# Altium schematic symbol library SCH - MPU - TI - TI AM62x AMC.SchLib: 1 symbol
Pins are listed as number, name and electrical type; pins without a type are passive.

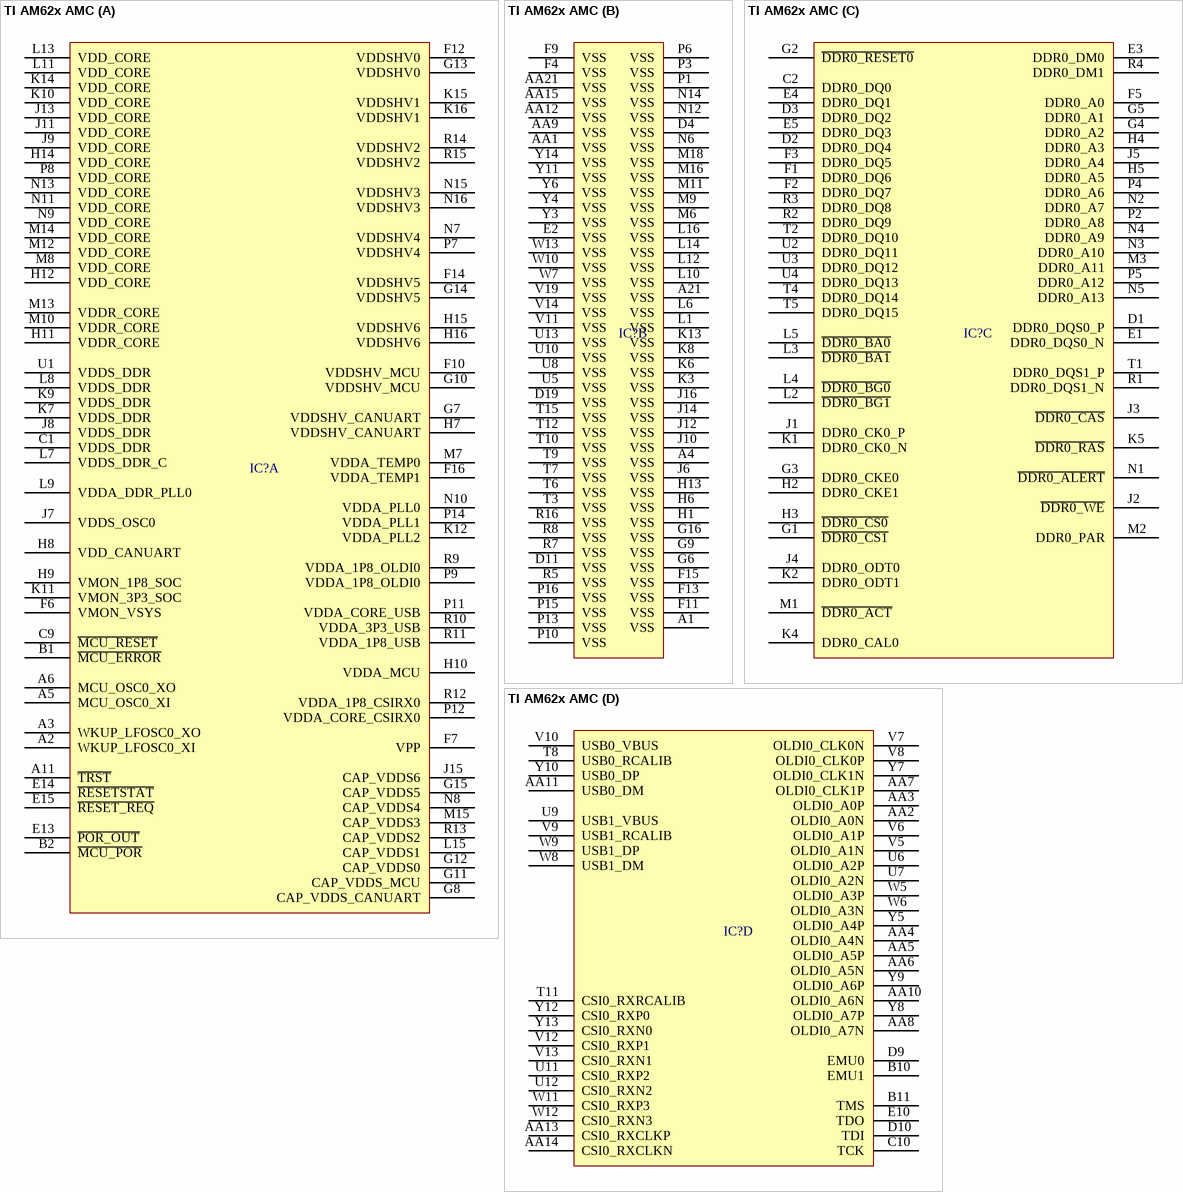
[diagram p0: symbol TI AM62x AMC]

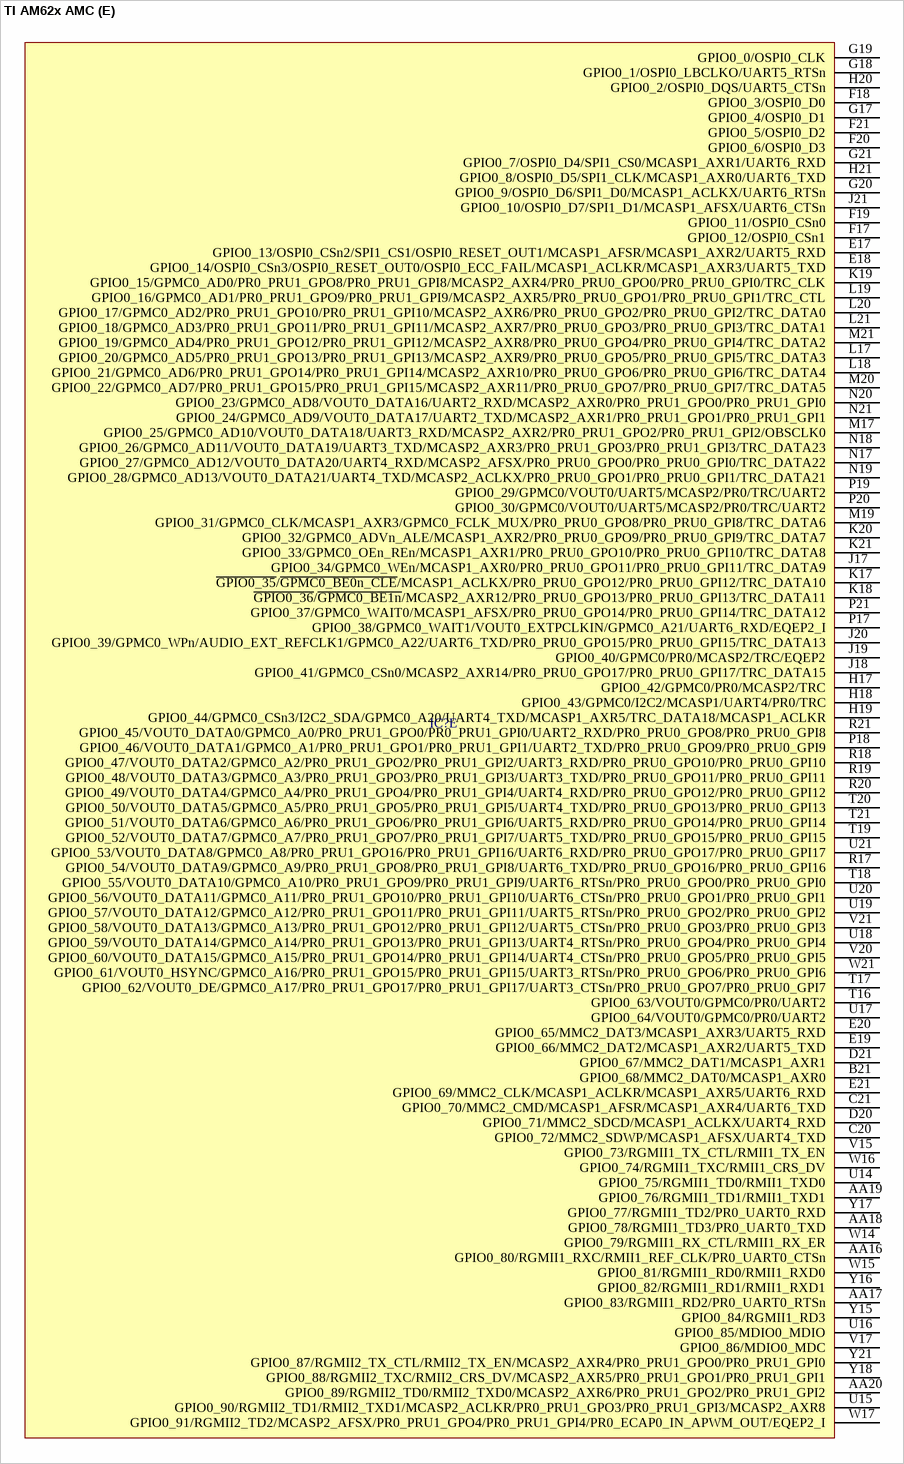
[diagram p1: symbol TI AM62x AMC]

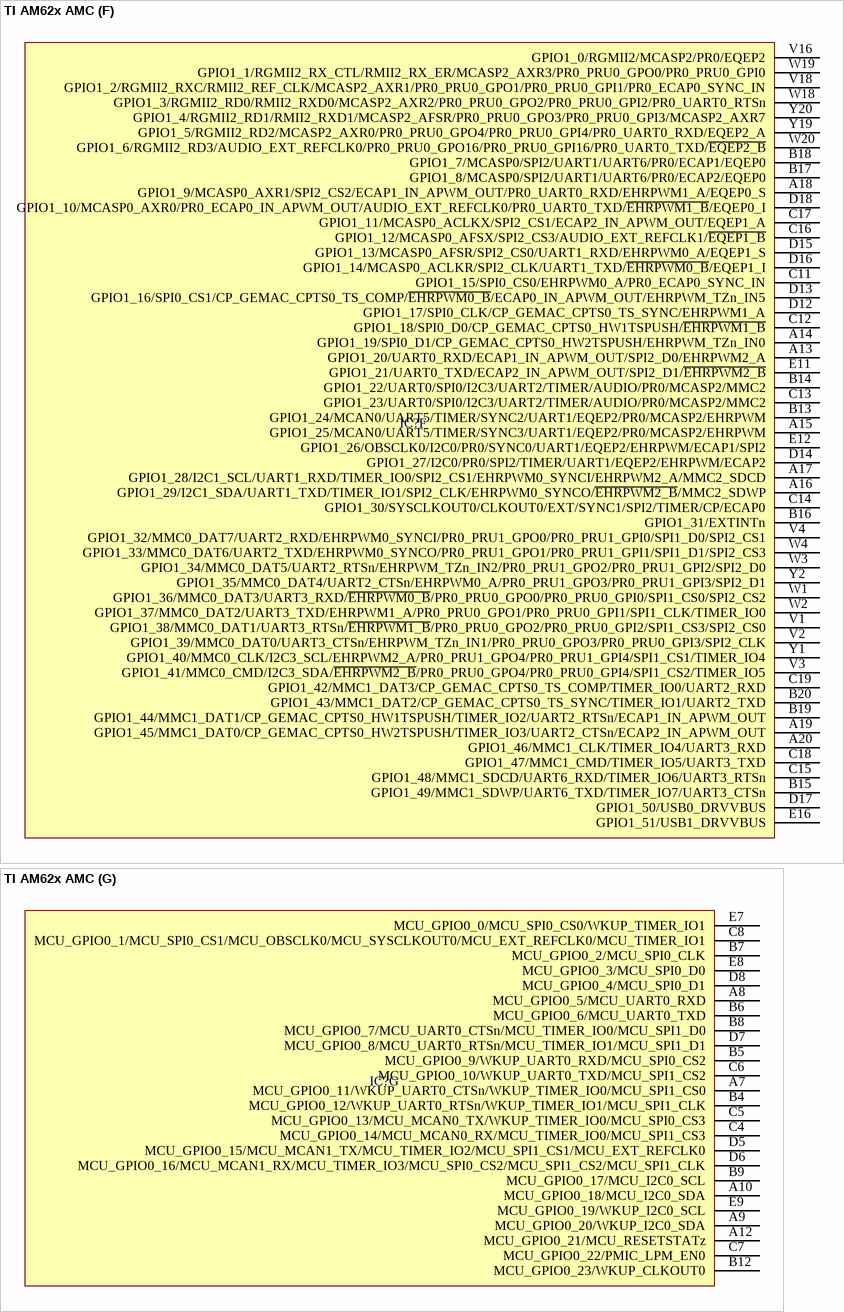
[diagram p2: symbol TI AM62x AMC]

## TI AM62x AMC
designator IC?
part A pins: A2 WKUP_LFOSC0_XI, A3 WKUP_LFOSC0_XO, A5 MCU_OSC0_XI, A6 MCU_OSC0_XO, A11 ~{TRST}, B1 ~{MCU_ERROR}, B2 ~{MCU_POR}, C1 VDDS_DDR, C9 ~{MCU_RESET}, E13 ~{POR_OUT}, E14 ~{RESETSTAT}, E15 ~{RESET_REQ}, F6 VMON_VSYS, F7 VPP, F10 VDDSHV_MCU, F12 VDDSHV0, F14 VDDSHV5, F16 VDDA_TEMP1, G7 VDDSHV_CANUART, G8 CAP_VDDS_CANUART, G10 VDDSHV_MCU, G11 CAP_VDDS_MCU, G12 CAP_VDDS0, G13 VDDSHV0, G14 VDDSHV5, G15 CAP_VDDS5, H7 VDDSHV_CANUART, H8 VDD_CANUART, H9 VMON_1P8_SOC, H10 VDDA_MCU, H11 VDDR_CORE, H12 VDD_CORE, H14 VDD_CORE, H15 VDDSHV6, H16 VDDSHV6, J7 VDDS_OSC0, J8 VDDS_DDR, J9 VDD_CORE, J11 VDD_CORE, J13 VDD_CORE, J15 CAP_VDDS6, K7 VDDS_DDR, K9 VDDS_DDR, K10 VDD_CORE, K11 VMON_3P3_SOC, K12 VDDA_PLL2, K14 VDD_CORE, K15 VDDSHV1, K16 VDDSHV1, L7 VDDS_DDR_C, L8 VDDS_DDR, L9 VDDA_DDR_PLL0, L11 VDD_CORE, L13 VDD_CORE, L15 CAP_VDDS1, M7 VDDA_TEMP0, M8 VDD_CORE, M10 VDDR_CORE, M12 VDD_CORE, M13 VDDR_CORE, M14 VDD_CORE, M15 CAP_VDDS3, N7 VDDSHV4, N8 CAP_VDDS4, N9 VDD_CORE, N10 VDDA_PLL0, N11 VDD_CORE, N13 VDD_CORE, N15 VDDSHV3, N16 VDDSHV3, P7 VDDSHV4, P8 VDD_CORE, P9 VDDA_1P8_OLDI0, P11 VDDA_CORE_USB, P12 VDDA_CORE_CSIRX0, P14 VDDA_PLL1, R9 VDDA_1P8_OLDI0, R10 VDDA_3P3_USB, R11 VDDA_1P8_USB, R12 VDDA_1P8_CSIRX0, R13 CAP_VDDS2, R14 VDDSHV2, R15 VDDSHV2, U1 VDDS_DDR
part B pins: A1 VSS, A4 VSS, A21 VSS, AA1 VSS, AA9 VSS, AA12 VSS, AA15 VSS, AA21 VSS, D4 VSS, D11 VSS, D19 VSS, E2 VSS, F4 VSS, F9 VSS, F11 VSS, F13 VSS, F15 VSS, G6 VSS, G9 VSS, G16 VSS, H1 VSS, H6 VSS, H13 VSS, J6 VSS, J10 VSS, J12 VSS, J14 VSS, J16 VSS, K3 VSS, K6 VSS, K8 VSS, K13 VSS, L1 VSS, L6 VSS, L10 VSS, L12 VSS, L14 VSS, L16 VSS, M6 VSS, M9 VSS, M11 VSS, M16 VSS, M18 VSS, N6 VSS, N12 VSS, N14 VSS, P1 VSS, P3 VSS, P6 VSS, P10 VSS, P13 VSS, P15 VSS, P16 VSS, R5 VSS, R7 VSS, R8 VSS, R16 VSS, T3 VSS, T6 VSS, T7 VSS, T9 VSS, T10 VSS, T12 VSS, T15 VSS, U5 VSS, U8 VSS, U10 VSS, U13 VSS, V11 VSS, V14 VSS, V19 VSS, W7 VSS, W10 VSS, W13 VSS, Y3 VSS, Y4 VSS, Y6 VSS, Y11 VSS, Y14 VSS
part C pins: C2 DDR0_DQ0, D1 DDR0_DQS0_P, D2 DDR0_DQ4, D3 DDR0_DQ2, E1 DDR0_DQS0_N, E3 DDR0_DM0, E4 DDR0_DQ1, E5 DDR0_DQ3, F1 DDR0_DQ6, F2 DDR0_DQ7, F3 DDR0_DQ5, F5 DDR0_A0, G1 ~{DDR0_CS1}, G2 ~{DDR0_RESET0}, G3 DDR0_CKE0, G4 DDR0_A2, G5 DDR0_A1, H2 DDR0_CKE1, H3 ~{DDR0_CS0}, H4 DDR0_A3, H5 DDR0_A5, J1 DDR0_CK0_P, J2 ~{DDR0_WE}, J3 ~{DDR0_CAS}, J4 DDR0_ODT0, J5 DDR0_A4, K1 DDR0_CK0_N, K2 DDR0_ODT1, K4 DDR0_CAL0, K5 ~{DDR0_RAS}, L2 ~{DDR0_BG1}, L3 ~{DDR0_BA1}, L4 ~{DDR0_BG0}, L5 ~{DDR0_BA0}, M1 ~{DDR0_ACT}, M2 DDR0_PAR, M3 DDR0_A11, N1 ~{DDR0_ALERT}, N2 DDR0_A7, N3 DDR0_A10, N4 DDR0_A9, N5 DDR0_A13, P2 DDR0_A8, P4 DDR0_A6, P5 DDR0_A12, R1 DDR0_DQS1_N, R2 DDR0_DQ9, R3 DDR0_DQ8, R4 DDR0_DM1, T1 DDR0_DQS1_P, T2 DDR0_DQ10, T4 DDR0_DQ14, T5 DDR0_DQ15, U2 DDR0_DQ11, U3 DDR0_DQ12, U4 DDR0_DQ13
part D pins: AA2 OLDI0_A0N, AA3 OLDI0_A0P, AA4 OLDI0_A4N, AA5 OLDI0_A5P, AA6 OLDI0_A5N, AA7 OLDI0_CLK1P, AA8 OLDI0_A7N, AA10 OLDI0_A6N, AA11 USB0_DM, AA13 CSI0_RXCLKP, AA14 CSI0_RXCLKN, B10 EMU1, B11 TMS, C10 TCK, D9 EMU0, D10 TDI, E10 TDO, T8 USB0_RCALIB, T11 CSI0_RXRCALIB, U6 OLDI0_A2P, U7 OLDI0_A2N, U9 USB1_VBUS, U11 CSI0_RXP2, U12 CSI0_RXN2, V5 OLDI0_A1N, V6 OLDI0_A1P, V7 OLDI0_CLK0N, V8 OLDI0_CLK0P, V9 USB1_RCALIB, V10 USB0_VBUS, V12 CSI0_RXP1, V13 CSI0_RXN1, W5 OLDI0_A3P, W6 OLDI0_A3N, W8 USB1_DM, W9 USB1_DP, W11 CSI0_RXP3, W12 CSI0_RXN3, Y5 OLDI0_A4P, Y7 OLDI0_CLK1N, Y8 OLDI0_A7P, Y9 OLDI0_A6P, Y10 USB0_DP, Y12 CSI0_RXP0, Y13 CSI0_RXN0
part E pins: AA16 GPIO0_80/RGMII1_RXC/RMII1_REF_CLK/PR0_UART0_CTSn, AA17 GPIO0_83/RGMII1_RD2/PR0_UART0_RTSn, AA18 GPIO0_78/RGMII1_TD3/PR0_UART0_TXD, AA19 GPIO0_76/RGMII1_TD1/RMII1_TXD1, AA20 GPIO0_89/RGMII2_TD0/RMII2_TXD0/MCASP2_AXR6/PR0_PRU1_GPO2/PR0_PRU1_GPI2, B21 GPIO0_68/MMC2_DAT0/MCASP1_AXR0, C20 GPIO0_72/MMC2_SDWP/MCASP1_AFSX/UART4_TXD, C21 GPIO0_70/MMC2_CMD/MCASP1_AFSR/MCASP1_AXR4/UART6_TXD, D20 GPIO0_71/MMC2_SDCD/MCASP1_ACLKX/UART4_RXD, D21 GPIO0_67/MMC2_DAT1/MCASP1_AXR1, E17 GPIO0_13/OSPI0_CSn2/SPI1_CS1/OSPI0_RESET_OUT1/MCASP1_AFSR/MCASP1_AXR2/UART5_RXD, E18 GPIO0_14/OSPI0_CSn3/OSPI0_RESET_OUT0/OSPI0_ECC_FAIL/MCASP1_ACLKR/MCASP1_AXR3/UART5_TXD, E19 GPIO0_66/MMC2_DAT2/MCASP1_AXR2/UART5_TXD, E20 GPIO0_65/MMC2_DAT3/MCASP1_AXR3/UART5_RXD, E21 GPIO0_69/MMC2_CLK/MCASP1_ACLKR/MCASP1_AXR5/UART6_RXD, F17 GPIO0_12/OSPI0_CSn1, F18 GPIO0_3/OSPI0_D0, F19 GPIO0_11/OSPI0_CSn0, F20 GPIO0_6/OSPI0_D3, F21 GPIO0_5/OSPI0_D2, G17 GPIO0_4/OSPI0_D1, G18 GPIO0_1/OSPI0_LBCLKO/UART5_RTSn, G19 GPIO0_0/OSPI0_CLK, G20 GPIO0_9/OSPI0_D6/SPI1_D0/MCASP1_ACLKX/UART6_RTSn, G21 GPIO0_7/OSPI0_D4/SPI1_CS0/MCASP1_AXR1/UART6_RXD, H17 GPIO0_42/GPMC0/PR0/MCASP2/TRC, H18 GPIO0_43/GPMC0/I2C2/MCASP1/UART4/PR0/TRC, H19 GPIO0_44/GPMC0_CSn3/I2C2_SDA/GPMC0_A20/UART4_TXD/MCASP1_AXR5/TRC_DATA18/MCASP1_ACLKR, H20 GPIO0_2/OSPI0_DQS/UART5_CTSn, H21 GPIO0_8/OSPI0_D5/SPI1_CLK/MCASP1_AXR0/UART6_TXD, J17 GPIO0_34/GPMC0_WEn/MCASP1_AXR0/PR0_PRU0_GPO11/PR0_PRU0_GPI11/TRC_DATA9, J18 GPIO0_41/GPMC0_CSn0/MCASP2_AXR14/PR0_PRU0_GPO17/PR0_PRU0_GPI17/TRC_DATA15, J19 GPIO0_40/GPMC0/PR0/MCASP2/TRC/EQEP2, J20 GPIO0_39/GPMC0_WPn/AUDIO_EXT_REFCLK1/GPMC0_A22/UART6_TXD/PR0_PRU0_GPO15/PR0_PRU0_GPI15/TRC_DATA13, J21 GPIO0_10/OSPI0_D7/SPI1_D1/MCASP1_AFSX/UART6_CTSn, K17 ~{GPIO0_35}/~{GPMC0_BE0n_CLE}/MCASP1_ACLKX/PR0_PRU0_GPO12/PR0_PRU0_GPI12/TRC_DATA10, K18 ~{GPIO0_36}/~{GPMC0_BE1n}/MCASP2_AXR12/PR0_PRU0_GPO13/PR0_PRU0_GPI13/TRC_DATA11, K19 GPIO0_15/GPMC0_AD0/PR0_PRU1_GPO8/PR0_PRU1_GPI8/MCASP2_AXR4/PR0_PRU0_GPO0/PR0_PRU0_GPI0/TRC_CLK, K20 GPIO0_32/GPMC0_ADVn_ALE/MCASP1_AXR2/PR0_PRU0_GPO9/PR0_PRU0_GPI9/TRC_DATA7, K21 GPIO0_33/GPMC0_OEn_REn/MCASP1_AXR1/PR0_PRU0_GPO10/PR0_PRU0_GPI10/TRC_DATA8, L17 GPIO0_20/GPMC0_AD5/PR0_PRU1_GPO13/PR0_PRU1_GPI13/MCASP2_AXR9/PR0_PRU0_GPO5/PR0_PRU0_GPI5/TRC_DATA3, L18 GPIO0_21/GPMC0_AD6/PR0_PRU1_GPO14/PR0_PRU1_GPI14/MCASP2_AXR10/PR0_PRU0_GPO6/PR0_PRU0_GPI6/TRC_DATA4, L19 GPIO0_16/GPMC0_AD1/PR0_PRU1_GPO9/PR0_PRU1_GPI9/MCASP2_AXR5/PR0_PRU0_GPO1/PR0_PRU0_GPI1/TRC_CTL, L20 GPIO0_17/GPMC0_AD2/PR0_PRU1_GPO10/PR0_PRU1_GPI10/MCASP2_AXR6/PR0_PRU0_GPO2/PR0_PRU0_GPI2/TRC_DATA0, L21 GPIO0_18/GPMC0_AD3/PR0_PRU1_GPO11/PR0_PRU1_GPI11/MCASP2_AXR7/PR0_PRU0_GPO3/PR0_PRU0_GPI3/TRC_DATA1, M17 GPIO0_25/GPMC0_AD10/VOUT0_DATA18/UART3_RXD/MCASP2_AXR2/PR0_PRU1_GPO2/PR0_PRU1_GPI2/OBSCLK0, M19 GPIO0_31/GPMC0_CLK/MCASP1_AXR3/GPMC0_FCLK_MUX/PR0_PRU0_GPO8/PR0_PRU0_GPI8/TRC_DATA6, M20 GPIO0_22/GPMC0_AD7/PR0_PRU1_GPO15/PR0_PRU1_GPI15/MCASP2_AXR11/PR0_PRU0_GPO7/PR0_PRU0_GPI7/TRC_DATA5, M21 GPIO0_19/GPMC0_AD4/PR0_PRU1_GPO12/PR0_PRU1_GPI12/MCASP2_AXR8/PR0_PRU0_GPO4/PR0_PRU0_GPI4/TRC_DATA2, N17 GPIO0_27/GPMC0_AD12/VOUT0_DATA20/UART4_RXD/MCASP2_AFSX/PR0_PRU0_GPO0/PR0_PRU0_GPI0/TRC_DATA22, N18 GPIO0_26/GPMC0_AD11/VOUT0_DATA19/UART3_TXD/MCASP2_AXR3/PR0_PRU1_GPO3/PR0_PRU1_GPI3/TRC_DATA23, N19 GPIO0_28/GPMC0_AD13/VOUT0_DATA21/UART4_TXD/MCASP2_ACLKX/PR0_PRU0_GPO1/PR0_PRU0_GPI1/TRC_DATA21, N20 GPIO0_23/GPMC0_AD8/VOUT0_DATA16/UART2_RXD/MCASP2_AXR0/PR0_PRU1_GPO0/PR0_PRU1_GPI0, N21 GPIO0_24/GPMC0_AD9/VOUT0_DATA17/UART2_TXD/MCASP2_AXR1/PR0_PRU1_GPO1/PR0_PRU1_GPI1, P17 GPIO0_38/GPMC0_WAIT1/VOUT0_EXTPCLKIN/GPMC0_A21/UART6_RXD/EQEP2_I, P18 GPIO0_46/VOUT0_DATA1/GPMC0_A1/PR0_PRU1_GPO1/PR0_PRU1_GPI1/UART2_TXD/PR0_PRU0_GPO9/PR0_PRU0_GPI9, P19 GPIO0_29/GPMC0/VOUT0/UART5/MCASP2/PR0/TRC/UART2, P20 GPIO0_30/GPMC0/VOUT0/UART5/MCASP2/PR0/TRC/UART2, P21 GPIO0_37/GPMC0_WAIT0/MCASP1_AFSX/PR0_PRU0_GPO14/PR0_PRU0_GPI14/TRC_DATA12, R17 GPIO0_54/VOUT0_DATA9/GPMC0_A9/PR0_PRU1_GPO8/PR0_PRU1_GPI8/UART6_TXD/PR0_PRU0_GPO16/PR0_PRU0_GPI16, R18 GPIO0_47/VOUT0_DATA2/GPMC0_A2/PR0_PRU1_GPO2/PR0_PRU1_GPI2/UART3_RXD/PR0_PRU0_GPO10/PR0_PRU0_GPI10, R19 GPIO0_48/VOUT0_DATA3/GPMC0_A3/PR0_PRU1_GPO3/PR0_PRU1_GPI3/UART3_TXD/PR0_PRU0_GPO11/PR0_PRU0_GPI11, R20 GPIO0_49/VOUT0_DATA4/GPMC0_A4/PR0_PRU1_GPO4/PR0_PRU1_GPI4/UART4_RXD/PR0_PRU0_GPO12/PR0_PRU0_GPI12, R21 GPIO0_45/VOUT0_DATA0/GPMC0_A0/PR0_PRU1_GPO0/PR0_PRU1_GPI0/UART2_RXD/PR0_PRU0_GPO8/PR0_PRU0_GPI8, T16 GPIO0_63/VOUT0/GPMC0/PR0/UART2, T17 GPIO0_62/VOUT0_DE/GPMC0_A17/PR0_PRU1_GPO17/PR0_PRU1_GPI17/UART3_CTSn/PR0_PRU0_GPO7/PR0_PRU0_GPI7, T18 GPIO0_55/VOUT0_DATA10/GPMC0_A10/PR0_PRU1_GPO9/PR0_PRU1_GPI9/UART6_RTSn/PR0_PRU0_GPO0/PR0_PRU0_GPI0, T19 GPIO0_52/VOUT0_DATA7/GPMC0_A7/PR0_PRU1_GPO7/PR0_PRU1_GPI7/UART5_TXD/PR0_PRU0_GPO15/PR0_PRU0_GPI15, T20 GPIO0_50/VOUT0_DATA5/GPMC0_A5/PR0_PRU1_GPO5/PR0_PRU1_GPI5/UART4_TXD/PR0_PRU0_GPO13/PR0_PRU0_GPI13, T21 GPIO0_51/VOUT0_DATA6/GPMC0_A6/PR0_PRU1_GPO6/PR0_PRU1_GPI6/UART5_RXD/PR0_PRU0_GPO14/PR0_PRU0_GPI14, U14 GPIO0_75/RGMII1_TD0/RMII1_TXD0, U15 GPIO0_90/RGMII2_TD1/RMII2_TXD1/MCASP2_ACLKR/PR0_PRU1_GPO3/PR0_PRU1_GPI3/MCASP2_AXR8, U16 GPIO0_85/MDIO0_MDIO, U17 GPIO0_64/VOUT0/GPMC0/PR0/UART2, U18 GPIO0_59/VOUT0_DATA14/GPMC0_A14/PR0_PRU1_GPO13/PR0_PRU1_GPI13/UART4_RTSn/PR0_PRU0_GPO4/PR0_PRU0_GPI4, U19 GPIO0_57/VOUT0_DATA12/GPMC0_A12/PR0_PRU1_GPO11/PR0_PRU1_GPI11/UART5_RTSn/PR0_PRU0_GPO2/PR0_PRU0_GPI2, U20 GPIO0_56/VOUT0_DATA11/GPMC0_A11/PR0_PRU1_GPO10/PR0_PRU1_GPI10/UART6_CTSn/PR0_PRU0_GPO1/PR0_PRU0_GPI1, U21 GPIO0_53/VOUT0_DATA8/GPMC0_A8/PR0_PRU1_GPO16/PR0_PRU1_GPI16/UART6_RXD/PR0_PRU0_GPO17/PR0_PRU0_GPI17, V15 GPIO0_73/RGMII1_TX_CTL/RMII1_TX_EN, V17 GPIO0_86/MDIO0_MDC, V20 GPIO0_60/VOUT0_DATA15/GPMC0_A15/PR0_PRU1_GPO14/PR0_PRU1_GPI14/UART4_CTSn/PR0_PRU0_GPO5/PR0_PRU0_GPI5, V21 GPIO0_58/VOUT0_DATA13/GPMC0_A13/PR0_PRU1_GPO12/PR0_PRU1_GPI12/UART5_CTSn/PR0_PRU0_GPO3/PR0_PRU0_GPI3, W14 GPIO0_79/RGMII1_RX_CTL/RMII1_RX_ER, W15 GPIO0_81/RGMII1_RD0/RMII1_RXD0, W16 GPIO0_74/RGMII1_TXC/RMII1_CRS_DV, W17 GPIO0_91/RGMII2_TD2/MCASP2_AFSX/PR0_PRU1_GPO4/PR0_PRU1_GPI4/PR0_ECAP0_IN_APWM_OUT/EQEP2_I, W21 GPIO0_61/VOUT0_HSYNC/GPMC0_A16/PR0_PRU1_GPO15/PR0_PRU1_GPI15/UART3_RTSn/PR0_PRU0_GPO6/PR0_PRU0_GPI6, Y15 GPIO0_84/RGMII1_RD3, Y16 GPIO0_82/RGMII1_RD1/RMII1_RXD1, Y17 GPIO0_77/RGMII1_TD2/PR0_UART0_RXD, Y18 GPIO0_88/RGMII2_TXC/RMII2_CRS_DV/MCASP2_AXR5/PR0_PRU1_GPO1/PR0_PRU1_GPI1, Y21 GPIO0_87/RGMII2_TX_CTL/RMII2_TX_EN/MCASP2_AXR4/PR0_PRU1_GPO0/PR0_PRU1_GPI0
part F pins: A13 GPIO1_20/UART0_RXD/ECAP1_IN_APWM_OUT/SPI2_D0/EHRPWM2_A, A14 GPIO1_19/SPI0_D1/CP_GEMAC_CPTS0_HW2TSPUSH/EHRPWM_TZn_IN0, A15 GPIO1_25/MCAN0/UART5/TIMER/SYNC3/UART1/EQEP2/PR0/MCASP2/EHRPWM, A16 GPIO1_29/I2C1_SDA/UART1_TXD/TIMER_IO1/SPI2_CLK/EHRPWM0_SYNCO/~{EHRPWM2_B}/MMC2_SDWP, A17 GPIO1_28/I2C1_SCL/UART1_RXD/TIMER_IO0/SPI2_CS1/EHRPWM0_SYNCI/EHRPWM2_A/MMC2_SDCD, A18 GPIO1_9/MCASP0_AXR1/SPI2_CS2/ECAP1_IN_APWM_OUT/PR0_UART0_RXD/EHRPWM1_A/EQEP0_S, A19 GPIO1_45/MMC1_DAT0/CP_GEMAC_CPTS0_HW2TSPUSH/TIMER_IO3/UART2_CTSn/ECAP2_IN_APWM_OUT, A20 GPIO1_46/MMC1_CLK/TIMER_IO4/UART3_RXD, B13 GPIO1_24/MCAN0/UART5/TIMER/SYNC2/UART1/EQEP2/PR0/MCASP2/EHRPWM, B14 GPIO1_22/UART0/SPI0/I2C3/UART2/TIMER/AUDIO/PR0/MCASP2/MMC2, B15 GPIO1_49/MMC1_SDWP/UART6_TXD/TIMER_IO7/UART3_CTSn, B16 GPIO1_31/EXTINTn, B17 GPIO1_8/MCASP0/SPI2/UART1/UART6/PR0/ECAP2/EQEP0, B18 GPIO1_7/MCASP0/SPI2/UART1/UART6/PR0/ECAP1/EQEP0, B19 GPIO1_44/MMC1_DAT1/CP_GEMAC_CPTS0_HW1TSPUSH/TIMER_IO2/UART2_RTSn/ECAP1_IN_APWM_OUT, B20 GPIO1_43/MMC1_DAT2/CP_GEMAC_CPTS0_TS_SYNC/TIMER_IO1/UART2_TXD, C11 GPIO1_15/SPI0_CS0/EHRPWM0_A/PR0_ECAP0_SYNC_IN, C12 GPIO1_18/SPI0_D0/CP_GEMAC_CPTS0_HW1TSPUSH/~{EHRPWM1_B}, C13 GPIO1_23/UART0/SPI0/I2C3/UART2/TIMER/AUDIO/PR0/MCASP2/MMC2, C14 GPIO1_30/SYSCLKOUT0/CLKOUT0/EXT/SYNC1/SPI2/TIMER/CP/ECAP0, C15 GPIO1_48/MMC1_SDCD/UART6_RXD/TIMER_IO6/UART3_RTSn, C16 GPIO1_12/MCASP0_AFSX/SPI2_CS3/AUDIO_EXT_REFCLK1/~{EQEP1_B}, C17 GPIO1_11/MCASP0_ACLKX/SPI2_CS1/ECAP2_IN_APWM_OUT/EQEP1_A, C18 GPIO1_47/MMC1_CMD/TIMER_IO5/UART3_TXD, C19 GPIO1_42/MMC1_DAT3/CP_GEMAC_CPTS0_TS_COMP/TIMER_IO0/UART2_RXD, D12 GPIO1_17/SPI0_CLK/CP_GEMAC_CPTS0_TS_SYNC/EHRPWM1_A, D13 GPIO1_16/SPI0_CS1/CP_GEMAC_CPTS0_TS_COMP/~{EHRPWM0_B}/ECAP0_IN_APWM_OUT/EHRPWM_TZn_IN5, D14 GPIO1_27/I2C0/PR0/SPI2/TIMER/UART1/EQEP2/EHRPWM/ECAP2, D15 GPIO1_13/MCASP0_AFSR/SPI2_CS0/UART1_RXD/EHRPWM0_A/EQEP1_S, D16 GPIO1_14/MCASP0_ACLKR/SPI2_CLK/UART1_TXD/~{EHRPWM0_B}/EQEP1_I, D17 GPIO1_50/USB0_DRVVBUS, D18 GPIO1_10/MCASP0_AXR0/PR0_ECAP0_IN_APWM_OUT/AUDIO_EXT_REFCLK0/PR0_UART0_TXD/~{EHRPWM1_B}/EQEP0_I, E11 GPIO1_21/UART0_TXD/ECAP2_IN_APWM_OUT/SPI2_D1/~{EHRPWM2_B}, E12 GPIO1_26/OBSCLK0/I2C0/PR0/SYNC0/UART1/EQEP2/EHRPWM/ECAP1/SPI2, E16 GPIO1_51/USB1_DRVVBUS, V1 GPIO1_38/MMC0_DAT1/UART3_RTSn/~{EHRPWM1_B}/PR0_PRU0_GPO2/PR0_PRU0_GPI2/SPI1_CS3/SPI2_CS0, V2 GPIO1_39/MMC0_DAT0/UART3_CTSn/EHRPWM_TZn_IN1/PR0_PRU0_GPO3/PR0_PRU0_GPI3/SPI2_CLK, V3 GPIO1_41/MMC0_CMD/I2C3_SDA/~{EHRPWM2_B}/PR0_PRU0_GPO4/PR0_PRU0_GPI4/SPI1_CS2/TIMER_IO5, V4 GPIO1_32/MMC0_DAT7/UART2_RXD/EHRPWM0_SYNCI/PR0_PRU1_GPO0/PR0_PRU1_GPI0/SPI1_D0/SPI2_CS1, V16 GPIO1_0/RGMII2/MCASP2/PR0/EQEP2, V18 GPIO1_2/RGMII2_RXC/RMII2_REF_CLK/MCASP2_AXR1/PR0_PRU0_GPO1/PR0_PRU0_GPI1/PR0_ECAP0_SYNC_IN, W1 GPIO1_36/MMC0_DAT3/UART3_RXD/~{EHRPWM0_B}/PR0_PRU0_GPO0/PR0_PRU0_GPI0/SPI1_CS0/SPI2_CS2, W2 GPIO1_37/MMC0_DAT2/UART3_TXD/EHRPWM1_A/PR0_PRU0_GPO1/PR0_PRU0_GPI1/SPI1_CLK/TIMER_IO0, W3 GPIO1_34/MMC0_DAT5/UART2_RTSn/EHRPWM_TZn_IN2/PR0_PRU1_GPO2/PR0_PRU1_GPI2/SPI2_D0, W4 GPIO1_33/MMC0_DAT6/UART2_TXD/EHRPWM0_SYNCO/PR0_PRU1_GPO1/PR0_PRU1_GPI1/SPI1_D1/SPI2_CS3, W18 GPIO1_3/RGMII2_RD0/RMII2_RXD0/MCASP2_AXR2/PR0_PRU0_GPO2/PR0_PRU0_GPI2/PR0_UART0_RTSn, W19 GPIO1_1/RGMII2_RX_CTL/RMII2_RX_ER/MCASP2_AXR3/PR0_PRU0_GPO0/PR0_PRU0_GPI0, W20 GPIO1_6/RGMII2_RD3/AUDIO_EXT_REFCLK0/PR0_PRU0_GPO16/PR0_PRU0_GPI16/PR0_UART0_TXD/~{EQEP2_B}, Y1 GPIO1_40/MMC0_CLK/I2C3_SCL/EHRPWM2_A/PR0_PRU1_GPO4/PR0_PRU1_GPI4/SPI1_CS1/TIMER_IO4, Y2 GPIO1_35/MMC0_DAT4/UART2_CTSn/EHRPWM0_A/PR0_PRU1_GPO3/PR0_PRU1_GPI3/SPI2_D1, Y19 GPIO1_5/RGMII2_RD2/MCASP2_AXR0/PR0_PRU0_GPO4/PR0_PRU0_GPI4/PR0_UART0_RXD/EQEP2_A, Y20 GPIO1_4/RGMII2_RD1/RMII2_RXD1/MCASP2_AFSR/PR0_PRU0_GPO3/PR0_PRU0_GPI3/MCASP2_AXR7
part G pins: A7 MCU_GPIO0_11/WKUP_UART0_CTSn/WKUP_TIMER_IO0/MCU_SPI1_CS0, A8 MCU_GPIO0_5/MCU_UART0_RXD, A9 MCU_GPIO0_20/WKUP_I2C0_SDA, A10 MCU_GPIO0_18/MCU_I2C0_SDA, A12 MCU_GPIO0_21/MCU_RESETSTATz, B4 MCU_GPIO0_12/WKUP_UART0_RTSn/WKUP_TIMER_IO1/MCU_SPI1_CLK, B5 MCU_GPIO0_9/WKUP_UART0_RXD/MCU_SPI0_CS2, B6 MCU_GPIO0_6/MCU_UART0_TXD, B7 MCU_GPIO0_2/MCU_SPI0_CLK, B8 MCU_GPIO0_7/MCU_UART0_CTSn/MCU_TIMER_IO0/MCU_SPI1_D0, B9 MCU_GPIO0_17/MCU_I2C0_SCL, B12 MCU_GPIO0_23/WKUP_CLKOUT0, C4 MCU_GPIO0_14/MCU_MCAN0_RX/MCU_TIMER_IO0/MCU_SPI1_CS3, C5 MCU_GPIO0_13/MCU_MCAN0_TX/WKUP_TIMER_IO0/MCU_SPI0_CS3, C6 MCU_GPIO0_10/WKUP_UART0_TXD/MCU_SPI1_CS2, C7 MCU_GPIO0_22/PMIC_LPM_EN0, C8 MCU_GPIO0_1/MCU_SPI0_CS1/MCU_OBSCLK0/MCU_SYSCLKOUT0/MCU_EXT_REFCLK0/MCU_TIMER_IO1, D5 MCU_GPIO0_15/MCU_MCAN1_TX/MCU_TIMER_IO2/MCU_SPI1_CS1/MCU_EXT_REFCLK0, D6 MCU_GPIO0_16/MCU_MCAN1_RX/MCU_TIMER_IO3/MCU_SPI0_CS2/MCU_SPI1_CS2/MCU_SPI1_CLK, D7 MCU_GPIO0_8/MCU_UART0_RTSn/MCU_TIMER_IO1/MCU_SPI1_D1, D8 MCU_GPIO0_4/MCU_SPI0_D1, E7 MCU_GPIO0_0/MCU_SPI0_CS0/WKUP_TIMER_IO1, E8 MCU_GPIO0_3/MCU_SPI0_D0, E9 MCU_GPIO0_19/WKUP_I2C0_SCL